# Altium schematic symbol library JUMPER 5 CHÂN.SchLib: 1 symbol
Pins are listed as number, name and electrical type; pins without a type are passive.

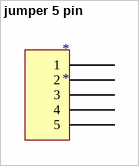
[diagram p0: symbol jumper 5 pin]

## jumper 5 pin
designator *
footprint jumper 5pin
pins: 1, 2, 3, 4, 5